# Altium schematic symbol library 570BAB000544DG.SchLib: 1 symbol
Pins are listed as number, name and electrical type; pins without a type are passive.

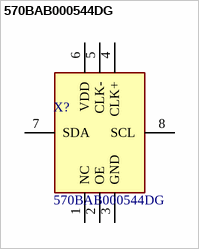
[diagram p0: symbol 570BAB000544DG]

## 570BAB000544DG
designator X?
Programmable Oscillators Differential/single-ended; I2C programmable XO; OE pin 2; 10-1417 MHz; Manufacturer_Name: Skyworks; Geometry.Height: 1.8mm; Mouser Part Number: 634-570BAB000544DG; Mouser Price/Stock: https://www.mouser.co.uk/ProductDetail/Skyworks-Solutions-Inc/570BAB000544DG?qs=AX5zmyZb%2F2btAMEnwyE8Kg%3D%3D; Manufacturer_Part_Number: 570BAB000544DG; Datasheet Link: https://www.skyworksinc.com/-/media/skyworks/sl/documents/public/data-sheets/si570-71.pdf
footprint 570BAB000544DG
pins: 1 NC, 2 OE, 3 GND, 4 CLK+, 5 CLK-, 6 VDD, 7 SDA, 8 SCL